# EAGLE library part AM3N-*S (library _hhn_aimtec_am3n)
aimtec AM3N Series: 3 W DC/DC-Converters; ±10% Input Range; DIL24-compatible AM3N-xxyyS: Single output; 1000 V I/O-isolation Packages: DIL24-compatible, metal Note: actual pin assignment depends on output configuration and i/o-isolation voltage, see description Source: http://www.aimtec.ca (DC-DC Converters Catalogue Rev. 1.1) Technologies: xx input voltage (V) yy output voltage (V) (S) Single output (none) 1000 V I/O-isolation voltage Author: Dipl.-Ing. FH Rainer Bayer HHN Hochschule Heilbronn (Heilbronn University), rainer.bayer@hs-heilbronn.de Ingenieurbüro ing-rb, mail@ing-rb.de
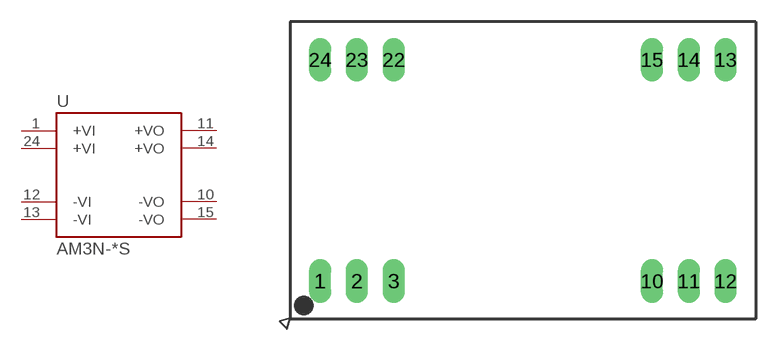
[diagram p0: symbol with the pads of AM3N_DIL24; footprint AM3N_DIL24]

Designator prefix U

## AM3N-0505S, AM3N-0507S, AM3N-0509S, AM3N-0512S, AM3N-0515S, AM3N-0518S, AM3N-0524S, AM3N-1205S, AM3N-1207S, AM3N-1209S, AM3N-1212S, AM3N-1215S, AM3N-1218S, AM3N-1224S, AM3N-2405S, AM3N-2407S, AM3N-2409S, AM3N-2412S, AM3N-2415S, AM3N-2418S, AM3N-2424S, AM3N-XXYYS  [AM3N_DIL24]
1  +VI  pwr
10  -VO  sup
11  +VO  sup
12  -VI  pwr
13  -VI  pwr
14  +VO  sup
15  -VO  sup
24  +VI  pwr

## Footprint AM3N_DIL24 (pad centres in mm)
aimtec 3W DC/DC-converter: DIL24, 1000 V I/O-isolation source: http://aimtec.ca; DC-DC Converters Catalogue Rev. 1.1
drill 1 long: 1 -13.97,-7.62; 2 -11.43,-7.62; 3 -8.89,-7.62; 10 8.89,-7.62; 11 11.43,-7.62; 12 13.97,-7.62; 13 13.97,7.62; 14 11.43,7.62; 15 8.89,7.62; 22 -8.89,7.62; 23 -11.43,7.62; 24 -13.97,7.62